# Altium integrated library 693071020811.IntLib: 1 symbol
Pins are listed as number, name and electrical type; pins without a type are passive.

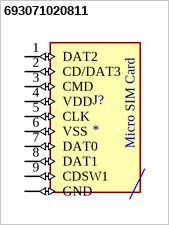
[diagram p0: symbol 693071020811]

## 693071020811
designator J?
9 (8 + 1) Position Card Connector Secure Digital - microSDâ„¢ Surface Mount, Right Angle Gold; MF: Wurth Electronics; MP: 693071020811; SnapEDA_Link: https://www.snapeda.com/parts/693071020811/Wurth+Electronics/view-part/?ref=snap; Package: None; Value: *; Check_prices: https://www.snapeda.com/parts/693071020811/Wurth+Electronics/view-part/?ref=eda
footprint 693071020811
pins: 1 DAT2 (io), 2 CD/DAT3 (io), 3 CMD (io), 4 VDD (io), 5 CLK (io), 6 VSS (io), 7 DAT0 (io), 8 DAT1 (io), 9 CDSW1 (io), 10 GND (io), 11 GND (io), 12 GND (io), 13 GND (io)
text: Micro SIM Card